# Altium schematic symbol library SCH - RF - SWITCH - PSEMI PE42442.SchLib: 1 symbol
Pins are listed as number, name and electrical type; pins without a type are passive.

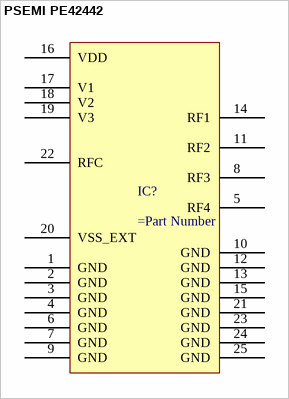
[diagram p0: symbol PSEMI PE42442]

## PSEMI PE42442
designator IC?
pins: 1 GND, 2 GND, 3 GND, 4 GND, 5 RF4, 6 GND, 7 GND, 8 RF3, 9 GND, 10 GND, 11 RF2, 12 GND, 13 GND, 14 RF1, 15 GND, 16 VDD, 17 V1, 18 V2, 19 V3, 20 VSS_EXT, 21 GND, 22 RFC, 23 GND, 24 GND, 25 GND